# Altium schematic symbol library ESP32-C3.SchLib: 1 symbol
Pins are listed as number, name and electrical type; pins without a type are passive.

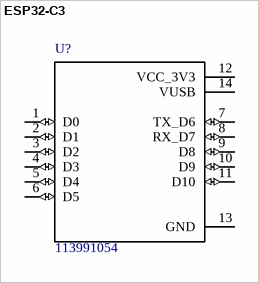
[diagram p0: symbol ESP32-C3]

## ESP32-C3
designator U?, comment 113991054
SnapEDA_Link: https://www.snapeda.com/parts/113991054/Seeed+Studio/view-part/?ref=snap; Check_prices: https://www.snapeda.com/parts/113991054/Seeed+Studio/view-part/?ref=eda; Value: *
footprint *MODULE_113991054
pins: 1 D0 (io), 2 D1 (io), 3 D2 (io), 4 D3 (io), 5 D4 (io), 6 D5 (io), 7 TX_D6 (io), 8 RX_D7 (io), 9 D8 (io), 10 D9 (io), 11 D10 (io), 12 VCC_3V3 (power), 13 GND (power), 14 VUSB (power)